# EAGLE library part EMS22A50-M25-LD6 (library alps_japan_potentiometers)
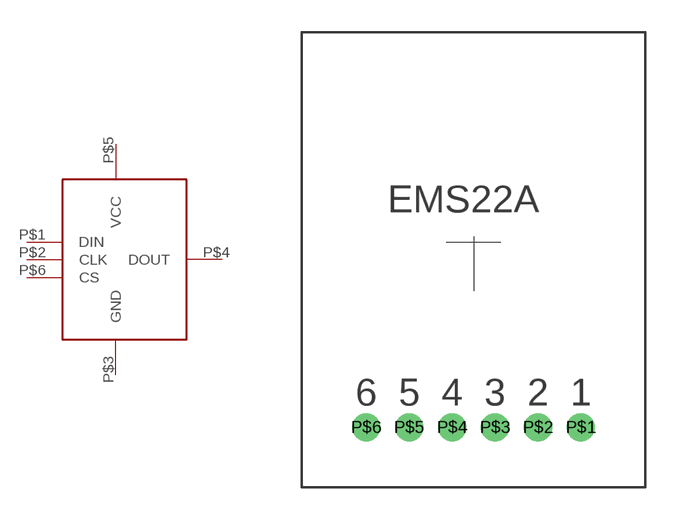
[diagram p5: symbol with the pads of EMS22A50--M25-LD6; footprint EMS22A50--M25-LD6]

Designator prefix -

## EMS22A50-M25-LD6  [EMS22A50--M25-LD6]
P$1  DIN  in
P$2  CLK  in
P$3  GND  pwr
P$4  DOUT  out
P$5  VCC  pwr
P$6  CS  in

## Footprint EMS22A50--M25-LD6 (pad centres in mm)
drill 0.8: P$1 5,-8.62; P$2 3,-8.62; P$3 1,-8.62; P$4 -1,-8.62; P$5 -3,-8.62; P$6 -5,-8.62